# EAGLE library part COMBEL (library F030NG)
COMBEL / ATARI C302995-001
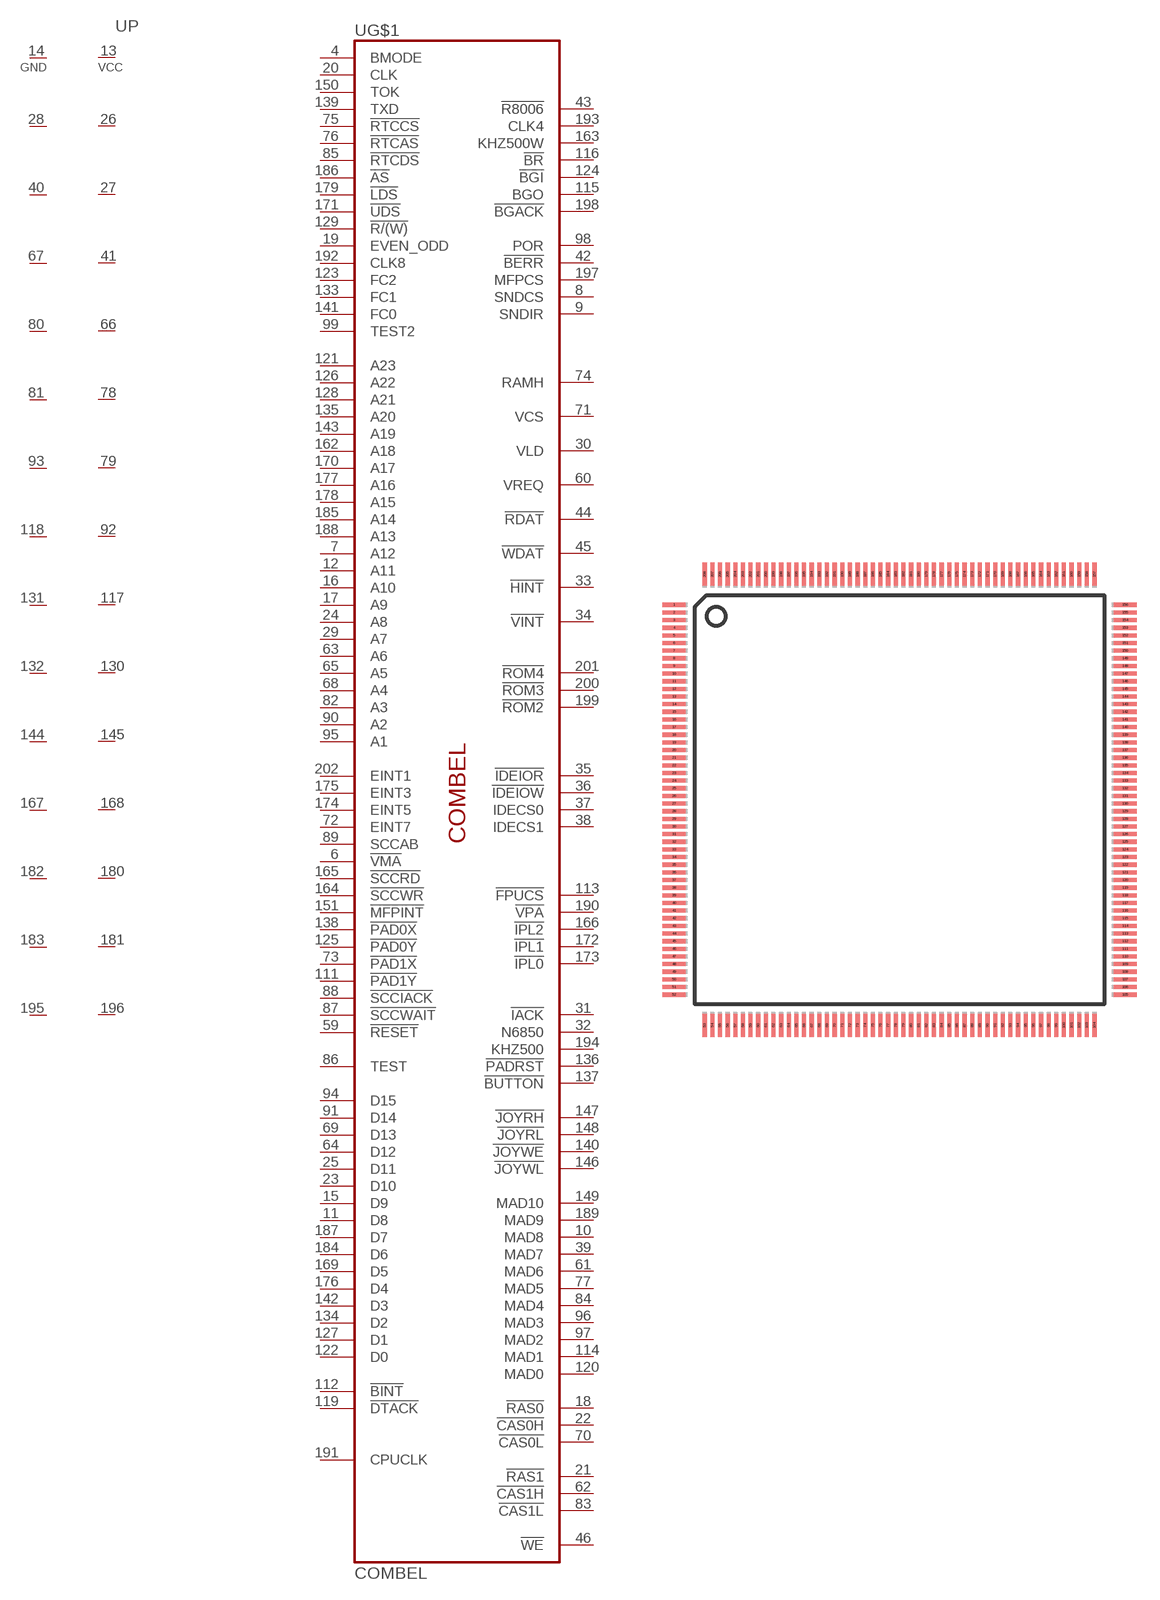
[diagram p22: symbol with the pads of TQFP208-05; footprint TQFP208-05]

Designator prefix U; gates G$1=COMBEL P=15VCC_15GND

## COMBEL-TQFP208/05  [TQFP208-05]
4  G$1:BMODE  in
6  G$1:!VMA  in
7  G$1:A12
8  G$1:SNDCS  out
9  G$1:SNDIR  out
10  G$1:MAD8  out
11  G$1:D8
12  G$1:A11
13  P:VCC  pwr
14  P:GND  pwr
15  G$1:D9
16  G$1:A10
17  G$1:A9
18  G$1:!RAS0  out
19  G$1:EVEN_ODD  in
20  G$1:CLK  in
21  G$1:!RAS1  in
22  G$1:!CAS0H  out
23  G$1:D10
24  G$1:A8
25  G$1:D11
26  P:VCC  pwr
27  P:VCC  pwr
28  P:GND  pwr
29  G$1:A7
30  G$1:VLD  out
31  G$1:!IACK  out
32  G$1:N6850  out
33  G$1:!HINT  in
34  G$1:!VINT  in
35  G$1:!IDEIOR  out
36  G$1:!IDEIOW  out
37  G$1:IDECS0  out
38  G$1:IDECS1  out
39  G$1:MAD7  out
40  P:GND  pwr
41  P:VCC  pwr
42  G$1:!BERR  out
43  G$1:!R8006  out
44  G$1:!RDAT  out
45  G$1:!WDAT  out
46  G$1:!WE  out
59  G$1:!RESET  in
60  G$1:VREQ  in
61  G$1:MAD6  out
62  G$1:!CAS1H  in
63  G$1:A6
64  G$1:D12
65  G$1:A5
66  P:VCC  pwr
67  P:GND  pwr
68  G$1:A4
69  G$1:D13
70  G$1:!CAS0L  out
71  G$1:VCS  out
72  G$1:EINT7  in
73  G$1:!PAD1X  in
74  G$1:RAMH  out
75  G$1:!RTCCS  out
76  G$1:!RTCAS  out
77  G$1:MAD5  out
78  P:VCC  pwr
79  P:VCC  pwr
80  P:GND  pwr
81  P:GND  pwr
82  G$1:A3
83  G$1:!CAS1L  in
84  G$1:MAD4  out
85  G$1:!RTCDS  out
86  G$1:TEST  in
87  G$1:!SCCWAIT  in
88  G$1:!SCCIACK  out
89  G$1:SCCAB  out
90  G$1:A2
91  G$1:D14
92  P:VCC  pwr
93  P:GND  pwr
94  G$1:D15
95  G$1:A1
96  G$1:MAD3  out
97  G$1:MAD2  out
98  G$1:POR  in
99  G$1:TEST2  in
111  G$1:!PAD1Y  in
112  G$1:!BINT  out
113  G$1:!FPUCS  out
114  G$1:MAD1  out
115  G$1:BGO  out
116  G$1:!BR  in
117  P:VCC  pwr
118  P:GND  pwr
119  G$1:!DTACK  out
120  G$1:MAD0  out
121  G$1:A23
122  G$1:D0
123  G$1:FC2
124  G$1:!BGI  in
125  G$1:!PAD0Y  in
126  G$1:A22
127  G$1:D1
128  G$1:A21
129  G$1:!R/(W)
130  P:VCC  pwr
131  P:GND  pwr
132  P:GND  pwr
133  G$1:FC1
134  G$1:D2
135  G$1:A20
136  G$1:!PADRST  out
137  G$1:!BUTTON  out
138  G$1:!PAD0X  in
139  G$1:TXD  in
140  G$1:!JOYWE  out
141  G$1:FC0
142  G$1:D3
143  G$1:A19
144  P:GND  pwr
145  P:VCC  pwr
146  G$1:!JOYWL  out
147  G$1:!JOYRH  out
148  G$1:!JOYRL  out
149  G$1:MAD10  out
150  G$1:TOK  in
151  G$1:!MFPINT  in
162  G$1:A18
163  G$1:KHZ500W  out
164  G$1:!SCCWR  out
165  G$1:!SCCRD  out
166  G$1:!IPL2  in
167  P:GND  pwr
168  P:VCC  pwr
169  G$1:D5
170  G$1:A17
171  G$1:!UDS
172  G$1:!IPL1  in
173  G$1:!IPL0  in
174  G$1:EINT5  in
175  G$1:EINT3  in
176  G$1:D4
177  G$1:A16
178  G$1:A15
179  G$1:!LDS
180  P:VCC  pwr
181  P:VCC  pwr
182  P:GND  pwr
183  P:GND  pwr
184  G$1:D6
185  G$1:A14
186  G$1:!AS
187  G$1:D7
188  G$1:A13
189  G$1:MAD9  out
190  G$1:!VPA  out
191  G$1:CPUCLK  out
192  G$1:CLK8  out
193  G$1:CLK4  out
194  G$1:KHZ500  out
195  P:GND  pwr
196  P:VCC  pwr
197  G$1:MFPCS  out
198  G$1:!BGACK  in
199  G$1:!ROM2  out
200  G$1:!ROM3  out
201  G$1:!ROM4  out
202  G$1:EINT1  in

## Footprint TQFP208-05 (pad centres in mm)
Thin Quad Flat Pack
smd 1.5 x 0.27: 1 -15.25,13.25; 2 -15.25,12.75; 3 -15.25,12.25; 4 -15.25,11.75; 5 -15.25,11.25; 6 -15.25,10.75; 7 -15.25,10.25; 8 -15.25,9.75; 9 -15.25,9.25; 10 -15.25,8.75; 11 -15.25,8.25; 12 -15.25,7.75; 13 -15.25,7.25; 14 -15.25,6.75; 15 -15.25,6.25; 16 -15.25,5.75; 17 -15.25,5.25; 18 -15.25,4.75; 19 -15.25,4.25; 20 -15.25,3.75; 21 -15.25,3.25; 22 -15.25,2.75; 23 -15.25,2.25; 24 -15.25,1.75; 25 -15.25,1.25; 26 -15.25,0.75; 27 -15.25,0.25; 28 -15.25,-0.25; 29 -15.25,-0.75; 30 -15.25,-1.25; 31 -15.25,-1.75; 32 -15.25,-2.25; 33 -15.25,-2.75; 34 -15.25,-3.25; 35 -15.25,-3.75; 36 -15.25,-4.25; 37 -15.25,-4.75; 38 -15.25,-5.25; 39 -15.25,-5.75; 40 -15.25,-6.25; 41 -15.25,-6.75; 42 -15.25,-7.25; 43 -15.25,-7.75; 44 -15.25,-8.25; 45 -15.25,-8.75; 46 -15.25,-9.25; 47 -15.25,-9.75; 48 -15.25,-10.25; 49 -15.25,-10.75; 50 -15.25,-11.25; 51 -15.25,-11.75; 52 -15.25,-12.25; 105 14.25,-12.25; 106 14.25,-11.75; 107 14.25,-11.25; 108 14.25,-10.75; 109 14.25,-10.25; 110 14.25,-9.75; 111 14.25,-9.25; 112 14.25,-8.75; 113 14.25,-8.25; 114 14.25,-7.75; 115 14.25,-7.25; 116 14.25,-6.75; 117 14.25,-6.25; 118 14.25,-5.75; 119 14.25,-5.25; 120 14.25,-4.75; 121 14.25,-4.25; 122 14.25,-3.75; 123 14.25,-3.25; 124 14.25,-2.75; 125 14.25,-2.25; 126 14.25,-1.75; 127 14.25,-1.25; 128 14.25,-0.75; 129 14.25,-0.25; 130 14.25,0.25; 131 14.25,0.75; 132 14.25,1.25; 133 14.25,1.75; 134 14.25,2.25; 135 14.25,2.75; 136 14.25,3.25; 137 14.25,3.75; 138 14.25,4.25; 139 14.25,4.75; 140 14.25,5.25; 141 14.25,5.75; 142 14.25,6.25; 143 14.25,6.75; 144 14.25,7.25; 145 14.25,7.75; 146 14.25,8.25; 147 14.25,8.75; 148 14.25,9.25; 149 14.25,9.75; 150 14.25,10.25; 151 14.25,10.75; 152 14.25,11.25; 153 14.25,11.75; 154 14.25,12.25; 155 14.25,12.75; 156 14.25,13.25
smd 0.27 x 1.5: 53 -13.25,-14.25; 54 -12.75,-14.25; 55 -12.25,-14.25; 56 -11.75,-14.25; 57 -11.25,-14.25; 58 -10.75,-14.25; 59 -10.25,-14.25; 60 -9.75,-14.25; 61 -9.25,-14.25; 62 -8.75,-14.25; 63 -8.25,-14.25; 64 -7.75,-14.25; 65 -7.25,-14.25; 66 -6.75,-14.25; 67 -6.25,-14.25; 68 -5.75,-14.25; 69 -5.25,-14.25; 70 -4.75,-14.25; 71 -4.25,-14.25; 72 -3.75,-14.25; 73 -3.25,-14.25; 74 -2.75,-14.25; 75 -2.25,-14.25; 76 -1.75,-14.25; 77 -1.25,-14.25; 78 -0.75,-14.25; 79 -0.25,-14.25; 80 0.25,-14.25; 81 0.75,-14.25; 82 1.25,-14.25; 83 1.75,-14.25; 84 2.25,-14.25; 85 2.75,-14.25; 86 3.25,-14.25; 87 3.75,-14.25; 88 4.25,-14.25; 89 4.75,-14.25; 90 5.25,-14.25; 91 5.75,-14.25; 92 6.25,-14.25; 93 6.75,-14.25; 94 7.25,-14.25; 95 7.75,-14.25; 96 8.25,-14.25; 97 8.75,-14.25; 98 9.25,-14.25; 99 9.75,-14.25; 100 10.25,-14.25; 101 10.75,-14.25; 102 11.25,-14.25; 103 11.75,-14.25; 104 12.25,-14.25; 157 12.25,15.25; 158 11.75,15.25; 159 11.25,15.25; 160 10.75,15.25; 161 10.25,15.25; 162 9.75,15.25; 163 9.25,15.25; 164 8.75,15.25; 165 8.25,15.25; 166 7.75,15.25; 167 7.25,15.25; 168 6.75,15.25; 169 6.25,15.25; 170 5.75,15.25; 171 5.25,15.25; 172 4.75,15.25; 173 4.25,15.25; 174 3.75,15.25; 175 3.25,15.25; 176 2.75,15.25; 177 2.25,15.25; 178 1.75,15.25; 179 1.25,15.25; 180 0.75,15.25; 181 0.25,15.25; 182 -0.25,15.25; 183 -0.75,15.25; 184 -1.25,15.25; 185 -1.75,15.25; 186 -2.25,15.25; 187 -2.75,15.25; 188 -3.25,15.25; 189 -3.75,15.25; 190 -4.25,15.25; 191 -4.75,15.25; 192 -5.25,15.25; 193 -5.75,15.25; 194 -6.25,15.25; 195 -6.75,15.25; 196 -7.25,15.25; 197 -7.75,15.25; 198 -8.25,15.25; 199 -8.75,15.25; 200 -9.25,15.25; 201 -9.75,15.25; 202 -10.25,15.25; 203 -10.75,15.25; 204 -11.25,15.25; 205 -11.75,15.25; 206 -12.25,15.25; 207 -12.75,15.25; 208 -13.25,15.25